# EAGLE library part ADXL377 (library FAE)
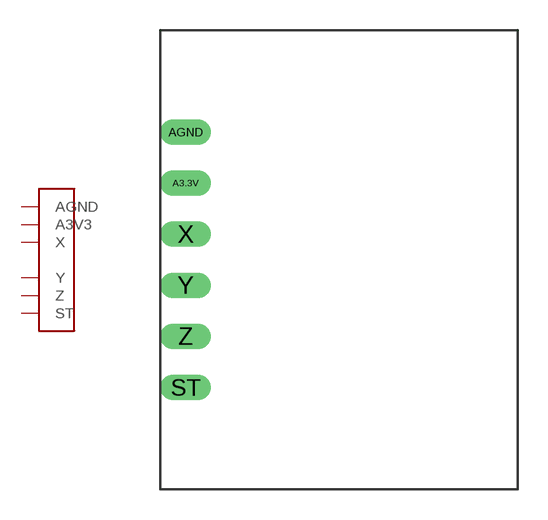
[diagram p1: symbol with the pads of ADXL377; footprint ADXL377]

Designator prefix -

## ADXL377  [ADXL377]
A3.3V  A3V3
AGND  AGND
ST  ST
X  X
Y  Y
Z  Z

## Footprint ADXL377 (pad centres in mm)
drill 0.3 pad 1.27 long: A3.3V 0,3.81; AGND 0,6.35; ST 0,-6.35; X 0,1.27; Y 0,-1.27; Z 0,-3.81